# EAGLE library part PROJEKT_SE5_ESP32-C3-MINI-DEVKIT (library Library_Łukasz.Skowron)
ESP32-C3-MINI-DEVKIT
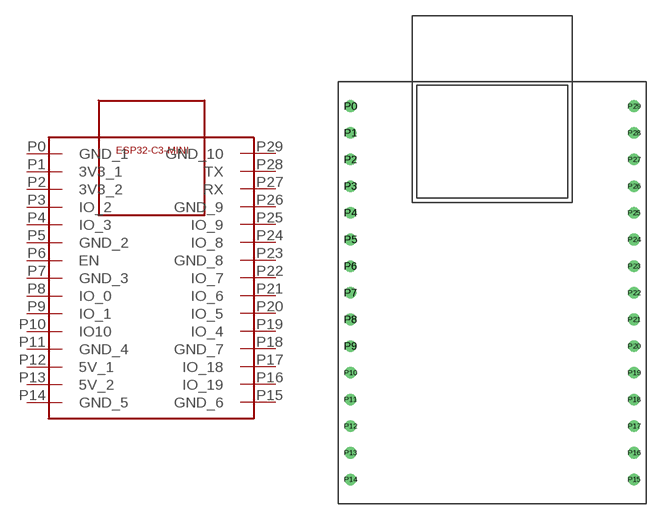
[diagram p0: symbol with the pads of PROJEKT_SE5_ESP32-C3-MINI; footprint PROJEKT_SE5_ESP32-C3-MINI]

Designator prefix -

## PROJEKT_SE5_ESP32-C3-MINI-DEVKITESP32-C3-MINI  [PROJEKT_SE5_ESP32-C3-MINI]
P0  GND_1  pwr
P1  3V3_1  pwr
P2  3V3_2  pwr
P3  IO_2
P4  IO_3
P5  GND_2  pwr
P6  EN  in
P7  GND_3  pwr
P8  IO_0
P9  IO_1
P10  IO10
P11  GND_4  pwr
P12  5V_1  pwr
P13  5V_2  pwr
P14  GND_5  pwr
P15  GND_6  pwr
P16  IO_19
P17  IO_18
P18  GND_7  pwr
P19  IO_4
P20  IO_5
P21  IO_6
P22  IO_7
P23  GND_8  pwr
P24  IO_8
P25  IO_9
P26  GND_9  pwr
P27  RX  in
P28  TX  out
P29  GND_10  pwr

## Footprint PROJEKT_SE5_ESP32-C3-MINI (pad centres in mm)
drill 0.6: P0 -13.5,17.78; P1 -13.5,15.24; P2 -13.5,12.7; P3 -13.5,10.16; P4 -13.5,7.62; P5 -13.5,5.08; P6 -13.5,2.54; P7 -13.5,0; P8 -13.5,-2.54; P9 -13.5,-5.08; P10 -13.5,-7.62; P11 -13.5,-10.16; P12 -13.5,-12.7; P13 -13.5,-15.24; P14 -13.5,-17.78; P15 13.5,-17.78; P16 13.5,-15.24; P17 13.5,-12.7; P18 13.5,-10.16; P19 13.5,-7.62; P20 13.5,-5.08; P21 13.5,-2.54; P22 13.5,0; P23 13.5,2.54; P24 13.5,5.08; P25 13.5,7.62; P26 13.5,10.16; P27 13.5,12.7; P28 13.5,15.24; P29 13.5,17.78